# EAGLE library part CARTRIDGE (library atari)
Cartridge
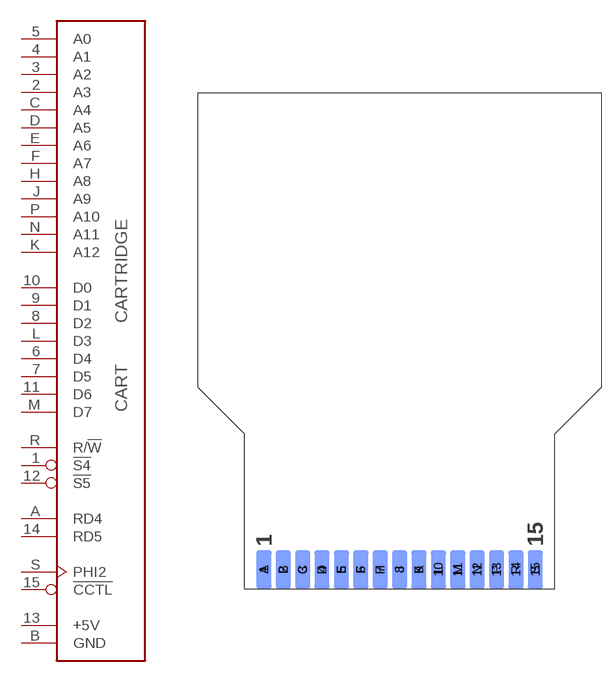
[diagram p27: symbol with the pads of CARTRIDGE; footprint CARTRIDGE]

Designator prefix CART

## CARTRIDGE  [CARTRIDGE]
1  !S4  out
2  A3  out
3  A2  out
4  A1  out
5  A0  out
6  D4
7  D5
8  D2
9  D1
10  D0
11  D6
12  !S5  out
13  +5V  pwr
14  RD5  in
15  !CCTL  out
A  RD4  in
B  GND  pwr
C  A4  out
D  A5  out
E  A6  out
F  A7  out
H  A8  out
J  A9  out
K  A12  out
L  D3
M  D7
N  A11  out
P  A10  out
R  R/!W  out
S  PHI2  out

## Footprint CARTRIDGE (pad centres in mm)
smd 2 x 5: 1 -17.82,-34.33; 2 -15.32,-34.33; 3 -12.82,-34.33; 4 -10.32,-34.33; 5 -7.82,-34.33; 6 -5.32,-34.33; 7 -2.82,-34.33; 8 -0.32,-34.33; 9 2.18,-34.33; 10 4.68,-34.33; 11 7.18,-34.33; 12 9.68,-34.33; 13 12.18,-34.33; 14 14.68,-34.33; 15 17.18,-34.33
smd 2 x 5 bottom: A -17.82,-34.33; B -15.32,-34.33; C -12.82,-34.33; D -10.32,-34.33; E -7.82,-34.33; F -5.32,-34.33; H -2.82,-34.33; J -0.32,-34.33; K 2.18,-34.33; L 4.68,-34.33; M 7.18,-34.33; N 9.68,-34.33; P 12.18,-34.33; R 14.68,-34.33; S 17.18,-34.33